# Altium integrated library Microchip DSC 16-Bit dsPIC30F.IntLib: 267 symbols (part 2 of 12)
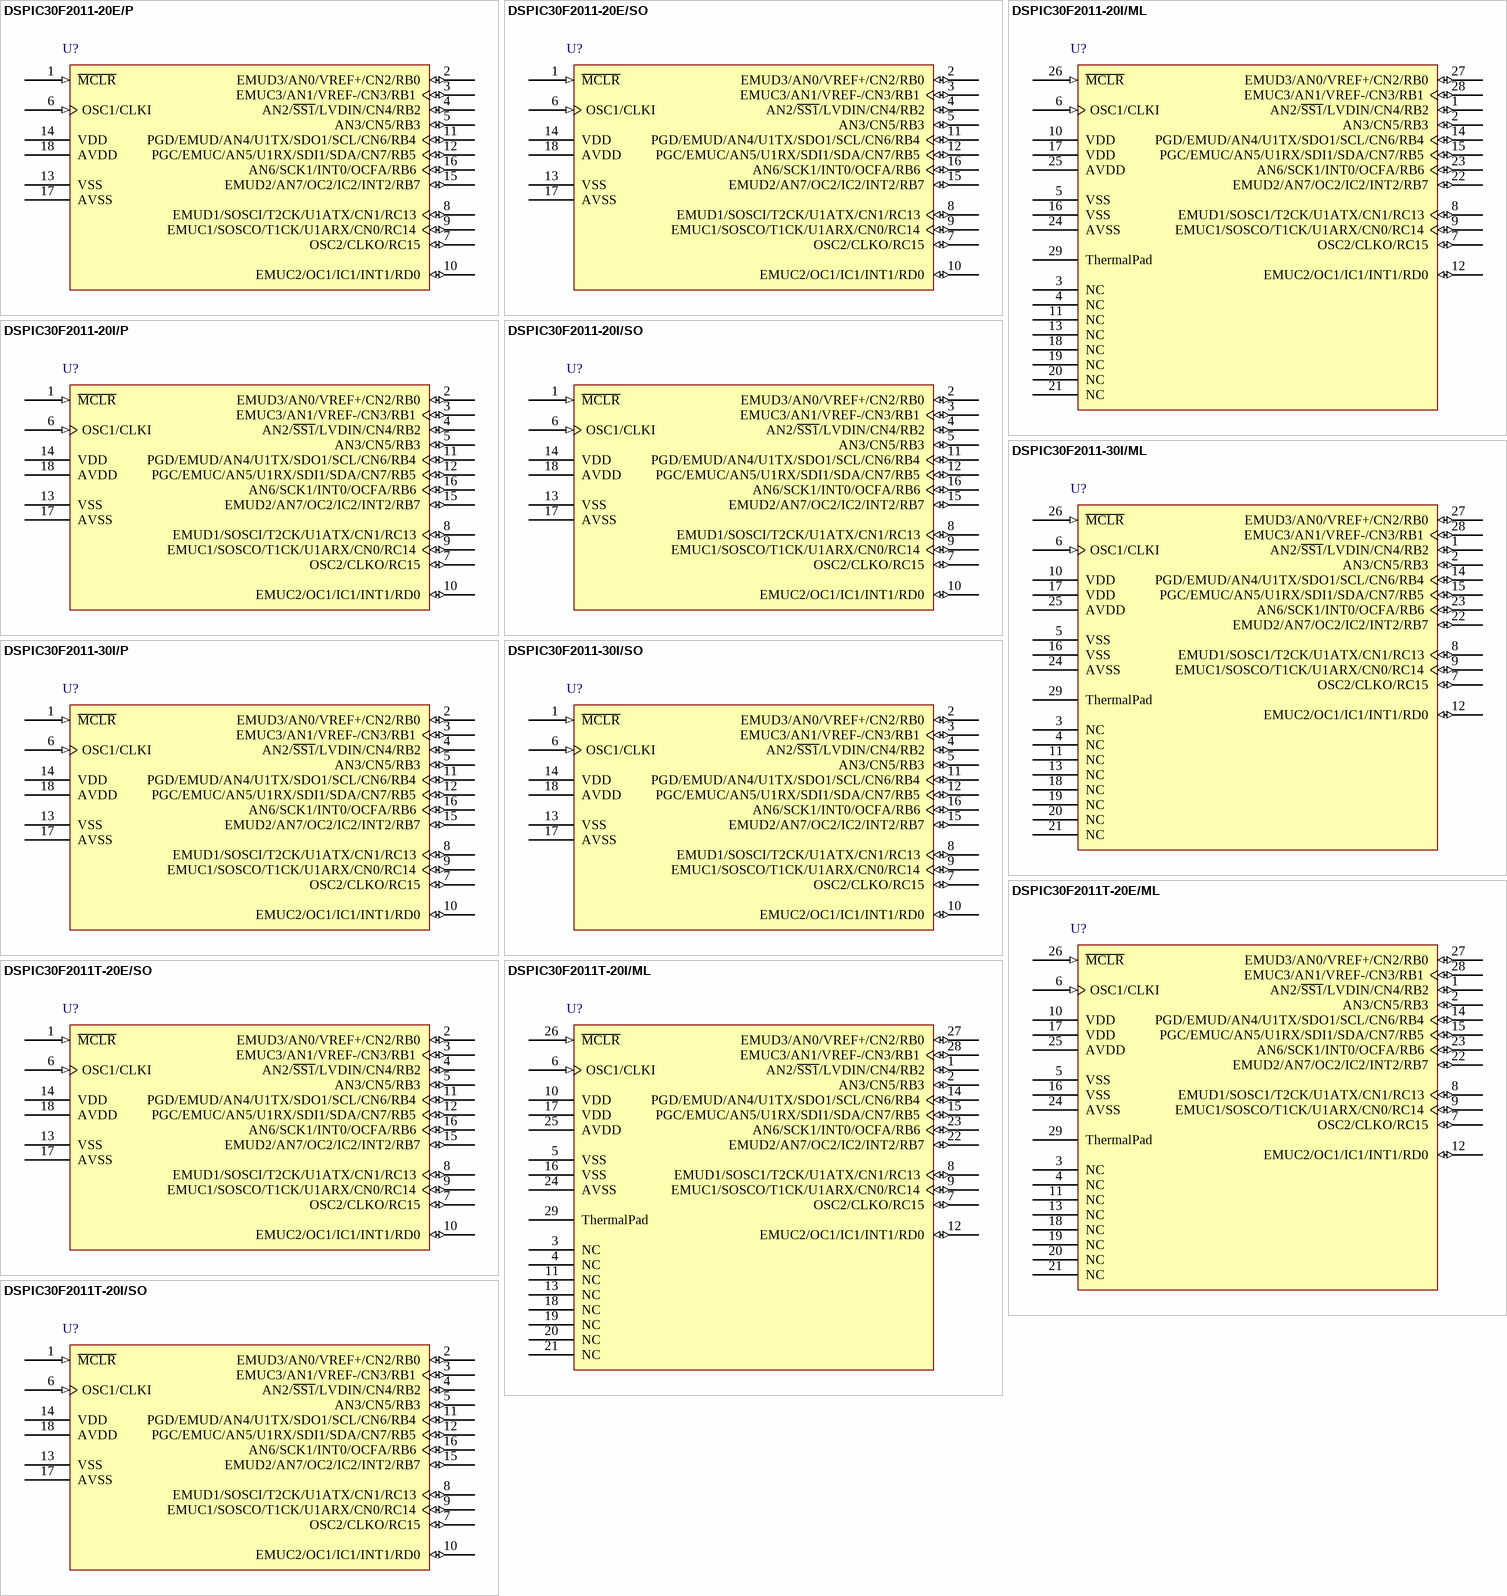
[diagram p44: symbols DSPIC30F2011-20E/P to DSPIC30F2011T-20I/SO]

## DSPIC30F2011-20E/SO
designator U?
High-Performance 16-bit Digital Signal Controller, 12 KB Flash, 1 KB SRAM, 18-Pin SOIC, Extended High Temperature; Published: 29-Jan-2009; DatasheetVersion: revF, May-2008; PackageVersion: revBB, Aug-2009; PackageReference: SOIC-SO18; Publisher: Altium Limited; PackageDescription: 18-Lead Plastic Small Outline (SO) - Wide 7.50mm Body [SOIC]; Supplier 1: Digi-Key; Supplier Part Number 1: DSPIC30F2011-20E/SO-ND; Code_JEDEC: MS-013; ComponentLink1Description: Datasheet; ComponentLink1URL: http://ww1.microchip.com/downloads/en/DeviceDoc/70139F.pdf; ComponentLink2Description: Packaging Specification; ComponentLink2URL: http://www.microchip.com/stellent/groups/techpub_sg/documents/packagingspec/en012702.pdf; ComponentLink3Description: Microchip.com Home; ComponentLink3URL: http://www.microchip.com/
footprint SOIC-SO18_N (SOIC, 18-Leads, Body 11.5x7.5mm, Pitch 1.27mm, IPC Medium Density)
footprint SOIC-SO18_L (SOIC, 18-Leads, Body 11.5x7.5mm, Pitch 1.27mm, IPC High Density)
footprint SOIC-SO18_M (SOIC, 18-Leads, Body 11.5x7.5mm, Pitch 1.27mm, IPC Low Density)
pins: 1 ~{MCLR} (in), 2 EMUD3/AN0/VREF+/CN2/RB0 (io), 3 EMUC3/AN1/VREF-/CN3/RB1 (io), 4 AN2/~{SS1}/LVDIN/CN4/RB2 (io), 5 AN3/CN5/RB3 (io), 6 OSC1/CLKI (in), 7 OSC2/CLKO/RC15 (io), 8 EMUD1/SOSCI/T2CK/U1ATX/CN1/RC13 (io), 9 EMUC1/SOSCO/T1CK/U1ARX/CN0/RC14 (io), 10 EMUC2/OC1/IC1/INT1/RD0 (io), 11 PGD/EMUD/AN4/U1TX/SDO1/SCL/CN6/RB4 (io), 12 PGC/EMUC/AN5/U1RX/SDI1/SDA/CN7/RB5 (io), 13 VSS (power), 14 VDD (power), 15 EMUD2/AN7/OC2/IC2/INT2/RB7 (io), 16 AN6/SCK1/INT0/OCFA/RB6 (io), 17 AVSS (power), 18 AVDD (power)

## DSPIC30F2011-20I/ML
designator U?
High-Performance 16-bit Digital Signal Controller, 12 KB Flash, 1 KB SRAM, 28-Pin QFN, Industrial Temperature; Published: 29-Jan-2009; DatasheetVersion: revF, May-2008; PackageVersion: revBB, Aug-2009; PackageReference: QFN-ML28; Publisher: Altium Limited; PackageDescription: 28-Lead Plastic Quad Flat, No Lead Package (ML) - 6x6 mm Body [QFN] with 0.55 mm Contact Length; Supplier 1: Digi-Key; Supplier Part Number 1: DSPIC30F201120IML-ND; Supplier 2: Farnell; Supplier Part Number 2: 9385851; Code_JEDEC: MO-220; Code_IPC: QFN65P600X600-28V; ComponentLink1Description: Datasheet; ComponentLink1URL: http://ww1.microchip.com/downloads/en/DeviceDoc/70139F.pdf; ComponentLink2Description: Packaging Specification; ComponentLink2URL: http://www.microchip.com/stellent/groups/techpub_sg/documents/packagingspec/en012702.pdf; ComponentLink3Description: Microchip.com Home; ComponentLink3URL: http://www.microchip.com/
footprint QFN-ML28_N (QFN, 28-Leads, Body 6x6 mm, Pitch 0.65mm, IPC Medium Density)
footprint QFN-ML28_L (QFN, 28-Leads, Body 6x6 mm, Pitch 0.65mm, IPC High Density)
footprint QFN-ML28_M (QFN, 28-Leads, Body 6x6 mm, Pitch 0.65mm, IPC Low Density)
pins: 1 AN2/~{SS1}/LVDIN/CN4/RB2 (io), 2 AN3/CN5/RB3 (io), 3 NC, 4 NC, 5 VSS (power), 6 OSC1/CLKI (in), 7 OSC2/CLKO/RC15 (io), 8 EMUD1/SOSC1/T2CK/U1ATX/CN1/RC13 (io), 9 EMUC1/SOSCO/T1CK/U1ARX/CN0/RC14 (io), 10 VDD (power), 11 NC, 12 EMUC2/OC1/IC1/INT1/RD0 (io), 13 NC, 14 PGD/EMUD/AN4/U1TX/SDO1/SCL/CN6/RB4 (io), 15 PGC/EMUC/AN5/U1RX/SDI1/SDA/CN7/RB5 (io), 16 VSS (power), 17 VDD (power), 18 NC, 19 NC, 20 NC, 21 NC, 22 EMUD2/AN7/OC2/IC2/INT2/RB7 (io), 23 AN6/SCK1/INT0/OCFA/RB6 (io), 24 AVSS (power), 25 AVDD (power), 26 ~{MCLR} (in), 27 EMUD3/AN0/VREF+/CN2/RB0 (io), 28 EMUC3/AN1/VREF-/CN3/RB1 (io), 29 ThermalPad

## DSPIC30F2011-20I/P
designator U?
High-Performance 16-bit Digital Signal Controller, 12 KB Flash, 1 KB SRAM, 18-Pin PDIP, Industrial Temperature; Published: 29-Jan-2009; DatasheetVersion: revF, May-2008; PackageVersion: revBB, Aug-2009; PackageReference: PDIP300-P18; Publisher: Altium Limited; PackageDescription: 18-Lead Plastic Dual In-Line (P) - 300 mil Body [PDIP]; Supplier 1: Digi-Key; Supplier Part Number 1: DSPIC30F2011-20IP-ND; Supplier 2: Farnell; Supplier Part Number 2: 9385860; Code_JEDEC: MS-001; ComponentLink1Description: Datasheet; ComponentLink1URL: http://ww1.microchip.com/downloads/en/DeviceDoc/70139F.pdf; ComponentLink2Description: Packaging Specification; ComponentLink2URL: http://www.microchip.com/stellent/groups/techpub_sg/documents/packagingspec/en012702.pdf; ComponentLink3Description: Microchip.com Home; ComponentLink3URL: http://www.microchip.com/
footprint PDIP300-P18 (DIP, 18-Leads, Row Spacing 7.62mm, Pitch 2.54mm, Body 22.9x6.6mm)
pins: 1 ~{MCLR} (in), 2 EMUD3/AN0/VREF+/CN2/RB0 (io), 3 EMUC3/AN1/VREF-/CN3/RB1 (io), 4 AN2/~{SS1}/LVDIN/CN4/RB2 (io), 5 AN3/CN5/RB3 (io), 6 OSC1/CLKI (in), 7 OSC2/CLKO/RC15 (io), 8 EMUD1/SOSCI/T2CK/U1ATX/CN1/RC13 (io), 9 EMUC1/SOSCO/T1CK/U1ARX/CN0/RC14 (io), 10 EMUC2/OC1/IC1/INT1/RD0 (io), 11 PGD/EMUD/AN4/U1TX/SDO1/SCL/CN6/RB4 (io), 12 PGC/EMUC/AN5/U1RX/SDI1/SDA/CN7/RB5 (io), 13 VSS (power), 14 VDD (power), 15 EMUD2/AN7/OC2/IC2/INT2/RB7 (io), 16 AN6/SCK1/INT0/OCFA/RB6 (io), 17 AVSS (power), 18 AVDD (power)

## DSPIC30F2011-20I/SO
designator U?
High-Performance 16-bit Digital Signal Controller, 12 KB Flash, 1 KB SRAM, 18-Pin SOIC, Industrial Temperature; Published: 29-Jan-2009; DatasheetVersion: revF, May-2008; PackageVersion: revBB, Aug-2009; PackageReference: SOIC-SO18; Publisher: Altium Limited; PackageDescription: 18-Lead Plastic Small Outline (SO) - Wide 7.50mm Body [SOIC]; Supplier 1: Digi-Key; Supplier Part Number 1: DSPIC30F201120ISO-ND; Supplier 2: Farnell; Supplier Part Number 2: 9385878; Code_JEDEC: MS-013; ComponentLink1Description: Datasheet; ComponentLink1URL: http://ww1.microchip.com/downloads/en/DeviceDoc/70139F.pdf; ComponentLink2Description: Packaging Specification; ComponentLink2URL: http://www.microchip.com/stellent/groups/techpub_sg/documents/packagingspec/en012702.pdf; ComponentLink3Description: Microchip.com Home; ComponentLink3URL: http://www.microchip.com/
footprint SOIC-SO18_N (SOIC, 18-Leads, Body 11.5x7.5mm, Pitch 1.27mm, IPC Medium Density)
footprint SOIC-SO18_L (SOIC, 18-Leads, Body 11.5x7.5mm, Pitch 1.27mm, IPC High Density)
footprint SOIC-SO18_M (SOIC, 18-Leads, Body 11.5x7.5mm, Pitch 1.27mm, IPC Low Density)
pins: 1 ~{MCLR} (in), 2 EMUD3/AN0/VREF+/CN2/RB0 (io), 3 EMUC3/AN1/VREF-/CN3/RB1 (io), 4 AN2/~{SS1}/LVDIN/CN4/RB2 (io), 5 AN3/CN5/RB3 (io), 6 OSC1/CLKI (in), 7 OSC2/CLKO/RC15 (io), 8 EMUD1/SOSCI/T2CK/U1ATX/CN1/RC13 (io), 9 EMUC1/SOSCO/T1CK/U1ARX/CN0/RC14 (io), 10 EMUC2/OC1/IC1/INT1/RD0 (io), 11 PGD/EMUD/AN4/U1TX/SDO1/SCL/CN6/RB4 (io), 12 PGC/EMUC/AN5/U1RX/SDI1/SDA/CN7/RB5 (io), 13 VSS (power), 14 VDD (power), 15 EMUD2/AN7/OC2/IC2/INT2/RB7 (io), 16 AN6/SCK1/INT0/OCFA/RB6 (io), 17 AVSS (power), 18 AVDD (power)

## DSPIC30F2011-30I/ML
designator U?
High-Performance 16-bit Digital Signal Controller, 12 KB Flash, 1 KB SRAM, 28-Pin QFN, Industrial Temperature; Published: 29-Jan-2009; DatasheetVersion: revF, May-2008; PackageVersion: revBB, Aug-2009; PackageReference: QFN-ML28; Publisher: Altium Limited; PackageDescription: 28-Lead Plastic Quad Flat, No Lead Package (ML) - 6x6 mm Body [QFN] with 0.55 mm Contact Length; Supplier 1: Digi-Key; Supplier Part Number 1: DSPIC30F201130IML-ND; Supplier 2: Farnell; Supplier Part Number 2: 1262751; Code_JEDEC: MO-220; Code_IPC: QFN65P600X600-28V; ComponentLink1Description: Datasheet; ComponentLink1URL: http://ww1.microchip.com/downloads/en/DeviceDoc/70139F.pdf; ComponentLink2Description: Packaging Specification; ComponentLink2URL: http://www.microchip.com/stellent/groups/techpub_sg/documents/packagingspec/en012702.pdf; ComponentLink3Description: Microchip.com Home; ComponentLink3URL: http://www.microchip.com/
footprint QFN-ML28_N (QFN, 28-Leads, Body 6x6 mm, Pitch 0.65mm, IPC Medium Density)
footprint QFN-ML28_L (QFN, 28-Leads, Body 6x6 mm, Pitch 0.65mm, IPC High Density)
footprint QFN-ML28_M (QFN, 28-Leads, Body 6x6 mm, Pitch 0.65mm, IPC Low Density)
pins: 1 AN2/~{SS1}/LVDIN/CN4/RB2 (io), 2 AN3/CN5/RB3 (io), 3 NC, 4 NC, 5 VSS (power), 6 OSC1/CLKI (in), 7 OSC2/CLKO/RC15 (io), 8 EMUD1/SOSC1/T2CK/U1ATX/CN1/RC13 (io), 9 EMUC1/SOSCO/T1CK/U1ARX/CN0/RC14 (io), 10 VDD (power), 11 NC, 12 EMUC2/OC1/IC1/INT1/RD0 (io), 13 NC, 14 PGD/EMUD/AN4/U1TX/SDO1/SCL/CN6/RB4 (io), 15 PGC/EMUC/AN5/U1RX/SDI1/SDA/CN7/RB5 (io), 16 VSS (power), 17 VDD (power), 18 NC, 19 NC, 20 NC, 21 NC, 22 EMUD2/AN7/OC2/IC2/INT2/RB7 (io), 23 AN6/SCK1/INT0/OCFA/RB6 (io), 24 AVSS (power), 25 AVDD (power), 26 ~{MCLR} (in), 27 EMUD3/AN0/VREF+/CN2/RB0 (io), 28 EMUC3/AN1/VREF-/CN3/RB1 (io), 29 ThermalPad

## DSPIC30F2011-30I/P
designator U?
High-Performance 16-bit Digital Signal Controller, 12 KB Flash, 1 KB SRAM, 18-Pin PDIP, Industrial Temperature; Published: 29-Jan-2009; DatasheetVersion: revF, May-2008; PackageVersion: revBB, Aug-2009; PackageReference: PDIP300-P18; Publisher: Altium Limited; PackageDescription: 18-Lead Plastic Dual In-Line (P) - 300 mil Body [PDIP]; Supplier 1: Digi-Key; Supplier Part Number 1: DSPIC30F2011-30IP-ND; Supplier 2: Farnell; Supplier Part Number 2: 1332022; Code_JEDEC: MS-001; ComponentLink1Description: Datasheet; ComponentLink1URL: http://ww1.microchip.com/downloads/en/DeviceDoc/70139F.pdf; ComponentLink2Description: Packaging Specification; ComponentLink2URL: http://www.microchip.com/stellent/groups/techpub_sg/documents/packagingspec/en012702.pdf; ComponentLink3Description: Microchip.com Home; ComponentLink3URL: http://www.microchip.com/
footprint PDIP300-P18 (DIP, 18-Leads, Row Spacing 7.62mm, Pitch 2.54mm, Body 22.9x6.6mm)
pins: 1 ~{MCLR} (in), 2 EMUD3/AN0/VREF+/CN2/RB0 (io), 3 EMUC3/AN1/VREF-/CN3/RB1 (io), 4 AN2/~{SS1}/LVDIN/CN4/RB2 (io), 5 AN3/CN5/RB3 (io), 6 OSC1/CLKI (in), 7 OSC2/CLKO/RC15 (io), 8 EMUD1/SOSCI/T2CK/U1ATX/CN1/RC13 (io), 9 EMUC1/SOSCO/T1CK/U1ARX/CN0/RC14 (io), 10 EMUC2/OC1/IC1/INT1/RD0 (io), 11 PGD/EMUD/AN4/U1TX/SDO1/SCL/CN6/RB4 (io), 12 PGC/EMUC/AN5/U1RX/SDI1/SDA/CN7/RB5 (io), 13 VSS (power), 14 VDD (power), 15 EMUD2/AN7/OC2/IC2/INT2/RB7 (io), 16 AN6/SCK1/INT0/OCFA/RB6 (io), 17 AVSS (power), 18 AVDD (power)

## DSPIC30F2011-30I/SO
designator U?
High-Performance 16-bit Digital Signal Controller, 12 KB Flash, 1 KB SRAM, 18-Pin SOIC, Industrial Temperature; Published: 29-Jan-2009; DatasheetVersion: revF, May-2008; PackageVersion: revBB, Aug-2009; PackageReference: SOIC-SO18; Publisher: Altium Limited; PackageDescription: 18-Lead Plastic Small Outline (SO) - Wide 7.50mm Body [SOIC]; Supplier 1: Digi-Key; Supplier Part Number 1: DSPIC30F201130ISO-ND; Supplier 2: Farnell; Supplier Part Number 2: 1332023; Code_JEDEC: MS-013; ComponentLink1Description: Datasheet; ComponentLink1URL: http://ww1.microchip.com/downloads/en/DeviceDoc/70139F.pdf; ComponentLink2Description: Packaging Specification; ComponentLink2URL: http://www.microchip.com/stellent/groups/techpub_sg/documents/packagingspec/en012702.pdf; ComponentLink3Description: Microchip.com Home; ComponentLink3URL: http://www.microchip.com/
footprint SOIC-SO18_N (SOIC, 18-Leads, Body 11.5x7.5mm, Pitch 1.27mm, IPC Medium Density)
footprint SOIC-SO18_L (SOIC, 18-Leads, Body 11.5x7.5mm, Pitch 1.27mm, IPC High Density)
footprint SOIC-SO18_M (SOIC, 18-Leads, Body 11.5x7.5mm, Pitch 1.27mm, IPC Low Density)
pins: 1 ~{MCLR} (in), 2 EMUD3/AN0/VREF+/CN2/RB0 (io), 3 EMUC3/AN1/VREF-/CN3/RB1 (io), 4 AN2/~{SS1}/LVDIN/CN4/RB2 (io), 5 AN3/CN5/RB3 (io), 6 OSC1/CLKI (in), 7 OSC2/CLKO/RC15 (io), 8 EMUD1/SOSCI/T2CK/U1ATX/CN1/RC13 (io), 9 EMUC1/SOSCO/T1CK/U1ARX/CN0/RC14 (io), 10 EMUC2/OC1/IC1/INT1/RD0 (io), 11 PGD/EMUD/AN4/U1TX/SDO1/SCL/CN6/RB4 (io), 12 PGC/EMUC/AN5/U1RX/SDI1/SDA/CN7/RB5 (io), 13 VSS (power), 14 VDD (power), 15 EMUD2/AN7/OC2/IC2/INT2/RB7 (io), 16 AN6/SCK1/INT0/OCFA/RB6 (io), 17 AVSS (power), 18 AVDD (power)

## DSPIC30F2011T-20E/ML
designator U?
High-Performance 16-bit Digital Signal Controller, 12 KB Flash, 1 KB SRAM, 28-Pin QFN, Extended High Temperature, Tape and Reel; Published: 29-Jan-2009; DatasheetVersion: revF, May-2008; PackageVersion: revBB, Aug-2009; PackageReference: QFN-ML28; Publisher: Altium Limited; PackageDescription: 28-Lead Plastic Quad Flat, No Lead Package (ML) - 6x6 mm Body [QFN] with 0.55 mm Contact Length; Supplier 1: Digi-Key; Supplier Part Number 1: DSPIC30F2011T-20E/ML-ND; Code_JEDEC: MO-220; Code_IPC: QFN65P600X600-28V; ComponentLink1Description: Datasheet; ComponentLink1URL: http://ww1.microchip.com/downloads/en/DeviceDoc/70139F.pdf; ComponentLink2Description: Packaging Specification; ComponentLink2URL: http://www.microchip.com/stellent/groups/techpub_sg/documents/packagingspec/en012702.pdf; ComponentLink3Description: Microchip.com Home; ComponentLink3URL: http://www.microchip.com/
footprint QFN-ML28_N (QFN, 28-Leads, Body 6x6 mm, Pitch 0.65mm, IPC Medium Density)
footprint QFN-ML28_L (QFN, 28-Leads, Body 6x6 mm, Pitch 0.65mm, IPC High Density)
footprint QFN-ML28_M (QFN, 28-Leads, Body 6x6 mm, Pitch 0.65mm, IPC Low Density)
pins: 1 AN2/~{SS1}/LVDIN/CN4/RB2 (io), 2 AN3/CN5/RB3 (io), 3 NC, 4 NC, 5 VSS (power), 6 OSC1/CLKI (in), 7 OSC2/CLKO/RC15 (io), 8 EMUD1/SOSC1/T2CK/U1ATX/CN1/RC13 (io), 9 EMUC1/SOSCO/T1CK/U1ARX/CN0/RC14 (io), 10 VDD (power), 11 NC, 12 EMUC2/OC1/IC1/INT1/RD0 (io), 13 NC, 14 PGD/EMUD/AN4/U1TX/SDO1/SCL/CN6/RB4 (io), 15 PGC/EMUC/AN5/U1RX/SDI1/SDA/CN7/RB5 (io), 16 VSS (power), 17 VDD (power), 18 NC, 19 NC, 20 NC, 21 NC, 22 EMUD2/AN7/OC2/IC2/INT2/RB7 (io), 23 AN6/SCK1/INT0/OCFA/RB6 (io), 24 AVSS (power), 25 AVDD (power), 26 ~{MCLR} (in), 27 EMUD3/AN0/VREF+/CN2/RB0 (io), 28 EMUC3/AN1/VREF-/CN3/RB1 (io), 29 ThermalPad

## DSPIC30F2011T-20E/SO
designator U?
High-Performance 16-bit Digital Signal Controller, 12 KB Flash, 1 KB SRAM, 18-Pin SOIC, Extended High Temperature, Tape and Reel; Published: 29-Jan-2009; DatasheetVersion: revF, May-2008; PackageVersion: revBB, Aug-2009; PackageReference: SOIC-SO18; Publisher: Altium Limited; PackageDescription: 18-Lead Plastic Small Outline (SO) - Wide 7.50mm Body [SOIC]; Supplier 1: Digi-Key; Supplier Part Number 1: DSPIC30F2011T-20E/SO-ND; Code_JEDEC: MS-013; ComponentLink1Description: Datasheet; ComponentLink1URL: http://ww1.microchip.com/downloads/en/DeviceDoc/70139F.pdf; ComponentLink2Description: Packaging Specification; ComponentLink2URL: http://www.microchip.com/stellent/groups/techpub_sg/documents/packagingspec/en012702.pdf; ComponentLink3Description: Microchip.com Home; ComponentLink3URL: http://www.microchip.com/
footprint SOIC-SO18_N (SOIC, 18-Leads, Body 11.5x7.5mm, Pitch 1.27mm, IPC Medium Density)
footprint SOIC-SO18_L (SOIC, 18-Leads, Body 11.5x7.5mm, Pitch 1.27mm, IPC High Density)
footprint SOIC-SO18_M (SOIC, 18-Leads, Body 11.5x7.5mm, Pitch 1.27mm, IPC Low Density)
pins: 1 ~{MCLR} (in), 2 EMUD3/AN0/VREF+/CN2/RB0 (io), 3 EMUC3/AN1/VREF-/CN3/RB1 (io), 4 AN2/~{SS1}/LVDIN/CN4/RB2 (io), 5 AN3/CN5/RB3 (io), 6 OSC1/CLKI (in), 7 OSC2/CLKO/RC15 (io), 8 EMUD1/SOSCI/T2CK/U1ATX/CN1/RC13 (io), 9 EMUC1/SOSCO/T1CK/U1ARX/CN0/RC14 (io), 10 EMUC2/OC1/IC1/INT1/RD0 (io), 11 PGD/EMUD/AN4/U1TX/SDO1/SCL/CN6/RB4 (io), 12 PGC/EMUC/AN5/U1RX/SDI1/SDA/CN7/RB5 (io), 13 VSS (power), 14 VDD (power), 15 EMUD2/AN7/OC2/IC2/INT2/RB7 (io), 16 AN6/SCK1/INT0/OCFA/RB6 (io), 17 AVSS (power), 18 AVDD (power)

## DSPIC30F2011T-20I/ML
designator U?
High-Performance 16-bit Digital Signal Controller, 12 KB Flash, 1 KB SRAM, 28-Pin QFN, Industrial Temperature, Tape and Reel; Published: 29-Jan-2009; DatasheetVersion: revF, May-2008; PackageVersion: revBB, Aug-2009; PackageReference: QFN-ML28; Publisher: Altium Limited; PackageDescription: 28-Lead Plastic Quad Flat, No Lead Package (ML) - 6x6 mm Body [QFN] with 0.55 mm Contact Length; Supplier 1: Digi-Key; Supplier Part Number 1: DSPIC30F2011T-20I/ML-ND; Code_JEDEC: MO-220; Code_IPC: QFN65P600X600-28V; ComponentLink1Description: Datasheet; ComponentLink1URL: http://ww1.microchip.com/downloads/en/DeviceDoc/70139F.pdf; ComponentLink2Description: Packaging Specification; ComponentLink2URL: http://www.microchip.com/stellent/groups/techpub_sg/documents/packagingspec/en012702.pdf; ComponentLink3Description: Microchip.com Home; ComponentLink3URL: http://www.microchip.com/
footprint QFN-ML28_N (QFN, 28-Leads, Body 6x6 mm, Pitch 0.65mm, IPC Medium Density)
footprint QFN-ML28_L (QFN, 28-Leads, Body 6x6 mm, Pitch 0.65mm, IPC High Density)
footprint QFN-ML28_M (QFN, 28-Leads, Body 6x6 mm, Pitch 0.65mm, IPC Low Density)
pins: 1 AN2/~{SS1}/LVDIN/CN4/RB2 (io), 2 AN3/CN5/RB3 (io), 3 NC, 4 NC, 5 VSS (power), 6 OSC1/CLKI (in), 7 OSC2/CLKO/RC15 (io), 8 EMUD1/SOSC1/T2CK/U1ATX/CN1/RC13 (io), 9 EMUC1/SOSCO/T1CK/U1ARX/CN0/RC14 (io), 10 VDD (power), 11 NC, 12 EMUC2/OC1/IC1/INT1/RD0 (io), 13 NC, 14 PGD/EMUD/AN4/U1TX/SDO1/SCL/CN6/RB4 (io), 15 PGC/EMUC/AN5/U1RX/SDI1/SDA/CN7/RB5 (io), 16 VSS (power), 17 VDD (power), 18 NC, 19 NC, 20 NC, 21 NC, 22 EMUD2/AN7/OC2/IC2/INT2/RB7 (io), 23 AN6/SCK1/INT0/OCFA/RB6 (io), 24 AVSS (power), 25 AVDD (power), 26 ~{MCLR} (in), 27 EMUD3/AN0/VREF+/CN2/RB0 (io), 28 EMUC3/AN1/VREF-/CN3/RB1 (io), 29 ThermalPad

## DSPIC30F2011T-20I/SO
designator U?
High-Performance 16-bit Digital Signal Controller, 12 KB Flash, 1 KB SRAM, 18-Pin SOIC, Industrial Temperature, Tape and Reel; Published: 29-Jan-2009; DatasheetVersion: revF, May-2008; PackageVersion: revBB, Aug-2009; PackageReference: SOIC-SO18; Publisher: Altium Limited; PackageDescription: 18-Lead Plastic Small Outline (SO) - Wide 7.50mm Body [SOIC]; Supplier 1: Digi-Key; Supplier Part Number 1: DSPIC30F2011T-20I/SO-ND; Code_JEDEC: MS-013; ComponentLink1Description: Datasheet; ComponentLink1URL: http://ww1.microchip.com/downloads/en/DeviceDoc/70139F.pdf; ComponentLink2Description: Packaging Specification; ComponentLink2URL: http://www.microchip.com/stellent/groups/techpub_sg/documents/packagingspec/en012702.pdf; ComponentLink3Description: Microchip.com Home; ComponentLink3URL: http://www.microchip.com/
footprint SOIC-SO18_N (SOIC, 18-Leads, Body 11.5x7.5mm, Pitch 1.27mm, IPC Medium Density)
footprint SOIC-SO18_L (SOIC, 18-Leads, Body 11.5x7.5mm, Pitch 1.27mm, IPC High Density)
footprint SOIC-SO18_M (SOIC, 18-Leads, Body 11.5x7.5mm, Pitch 1.27mm, IPC Low Density)
pins: 1 ~{MCLR} (in), 2 EMUD3/AN0/VREF+/CN2/RB0 (io), 3 EMUC3/AN1/VREF-/CN3/RB1 (io), 4 AN2/~{SS1}/LVDIN/CN4/RB2 (io), 5 AN3/CN5/RB3 (io), 6 OSC1/CLKI (in), 7 OSC2/CLKO/RC15 (io), 8 EMUD1/SOSCI/T2CK/U1ATX/CN1/RC13 (io), 9 EMUC1/SOSCO/T1CK/U1ARX/CN0/RC14 (io), 10 EMUC2/OC1/IC1/INT1/RD0 (io), 11 PGD/EMUD/AN4/U1TX/SDO1/SCL/CN6/RB4 (io), 12 PGC/EMUC/AN5/U1RX/SDI1/SDA/CN7/RB5 (io), 13 VSS (power), 14 VDD (power), 15 EMUD2/AN7/OC2/IC2/INT2/RB7 (io), 16 AN6/SCK1/INT0/OCFA/RB6 (io), 17 AVSS (power), 18 AVDD (power)

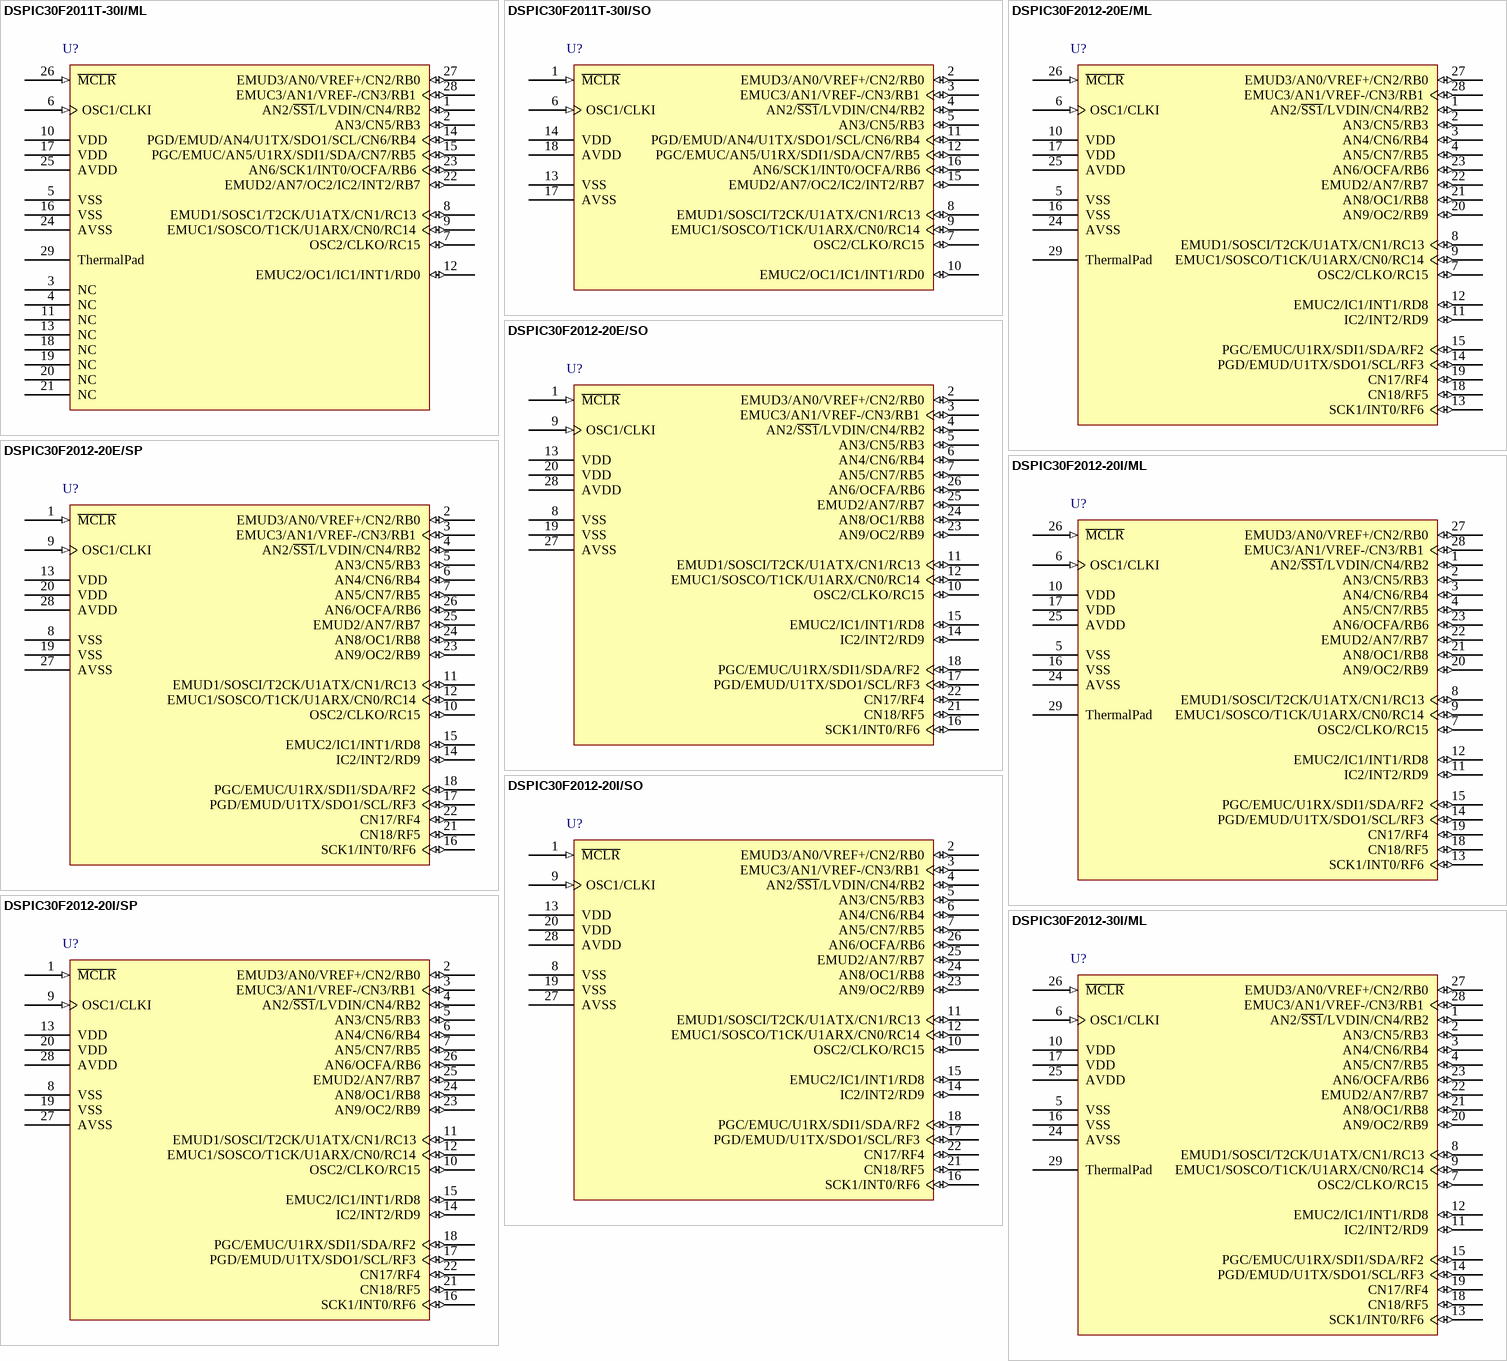
[diagram p4: symbols DSPIC30F2011T-30I/ML to DSPIC30F2012-30I/ML]

## DSPIC30F2011T-30I/ML
designator U?
High-Performance 16-bit Digital Signal Controller, 12 KB Flash, 1 KB SRAM, 28-Pin QFN, Industrial Temperature, Tape and Reel; Published: 29-Jan-2009; DatasheetVersion: revF, May-2008; PackageVersion: revBB, Aug-2009; PackageReference: QFN-ML28; Publisher: Altium Limited; PackageDescription: 28-Lead Plastic Quad Flat, No Lead Package (ML) - 6x6 mm Body [QFN] with 0.55 mm Contact Length; Supplier 1: Digi-Key; Supplier Part Number 1: DSPIC30F2011T-30I/ML-ND; Code_JEDEC: MO-220; Code_IPC: QFN65P600X600-28V; ComponentLink1Description: Datasheet; ComponentLink1URL: http://ww1.microchip.com/downloads/en/DeviceDoc/70139F.pdf; ComponentLink2Description: Packaging Specification; ComponentLink2URL: http://www.microchip.com/stellent/groups/techpub_sg/documents/packagingspec/en012702.pdf; ComponentLink3Description: Microchip.com Home; ComponentLink3URL: http://www.microchip.com/
footprint QFN-ML28_N (QFN, 28-Leads, Body 6x6 mm, Pitch 0.65mm, IPC Medium Density)
footprint QFN-ML28_L (QFN, 28-Leads, Body 6x6 mm, Pitch 0.65mm, IPC High Density)
footprint QFN-ML28_M (QFN, 28-Leads, Body 6x6 mm, Pitch 0.65mm, IPC Low Density)
pins: 1 AN2/~{SS1}/LVDIN/CN4/RB2 (io), 2 AN3/CN5/RB3 (io), 3 NC, 4 NC, 5 VSS (power), 6 OSC1/CLKI (in), 7 OSC2/CLKO/RC15 (io), 8 EMUD1/SOSC1/T2CK/U1ATX/CN1/RC13 (io), 9 EMUC1/SOSCO/T1CK/U1ARX/CN0/RC14 (io), 10 VDD (power), 11 NC, 12 EMUC2/OC1/IC1/INT1/RD0 (io), 13 NC, 14 PGD/EMUD/AN4/U1TX/SDO1/SCL/CN6/RB4 (io), 15 PGC/EMUC/AN5/U1RX/SDI1/SDA/CN7/RB5 (io), 16 VSS (power), 17 VDD (power), 18 NC, 19 NC, 20 NC, 21 NC, 22 EMUD2/AN7/OC2/IC2/INT2/RB7 (io), 23 AN6/SCK1/INT0/OCFA/RB6 (io), 24 AVSS (power), 25 AVDD (power), 26 ~{MCLR} (in), 27 EMUD3/AN0/VREF+/CN2/RB0 (io), 28 EMUC3/AN1/VREF-/CN3/RB1 (io), 29 ThermalPad

## DSPIC30F2011T-30I/SO
designator U?
High-Performance 16-bit Digital Signal Controller, 12 KB Flash, 1 KB SRAM, 18-Pin SOIC, Industrial Temperature, Tape and Reel; Published: 29-Jan-2009; DatasheetVersion: revF, May-2008; PackageVersion: revBB, Aug-2009; PackageReference: SOIC-SO18; Publisher: Altium Limited; PackageDescription: 18-Lead Plastic Small Outline (SO) - Wide 7.50mm Body [SOIC]; Supplier 1: Digi-Key; Supplier Part Number 1: DSPIC30F2011T-30I/SO-ND; Code_JEDEC: MS-013; ComponentLink1Description: Datasheet; ComponentLink1URL: http://ww1.microchip.com/downloads/en/DeviceDoc/70139F.pdf; ComponentLink2Description: Packaging Specification; ComponentLink2URL: http://www.microchip.com/stellent/groups/techpub_sg/documents/packagingspec/en012702.pdf; ComponentLink3Description: Microchip.com Home; ComponentLink3URL: http://www.microchip.com/
footprint SOIC-SO18_N (SOIC, 18-Leads, Body 11.5x7.5mm, Pitch 1.27mm, IPC Medium Density)
footprint SOIC-SO18_L (SOIC, 18-Leads, Body 11.5x7.5mm, Pitch 1.27mm, IPC High Density)
footprint SOIC-SO18_M (SOIC, 18-Leads, Body 11.5x7.5mm, Pitch 1.27mm, IPC Low Density)
pins: 1 ~{MCLR} (in), 2 EMUD3/AN0/VREF+/CN2/RB0 (io), 3 EMUC3/AN1/VREF-/CN3/RB1 (io), 4 AN2/~{SS1}/LVDIN/CN4/RB2 (io), 5 AN3/CN5/RB3 (io), 6 OSC1/CLKI (in), 7 OSC2/CLKO/RC15 (io), 8 EMUD1/SOSCI/T2CK/U1ATX/CN1/RC13 (io), 9 EMUC1/SOSCO/T1CK/U1ARX/CN0/RC14 (io), 10 EMUC2/OC1/IC1/INT1/RD0 (io), 11 PGD/EMUD/AN4/U1TX/SDO1/SCL/CN6/RB4 (io), 12 PGC/EMUC/AN5/U1RX/SDI1/SDA/CN7/RB5 (io), 13 VSS (power), 14 VDD (power), 15 EMUD2/AN7/OC2/IC2/INT2/RB7 (io), 16 AN6/SCK1/INT0/OCFA/RB6 (io), 17 AVSS (power), 18 AVDD (power)

## DSPIC30F2012-20E/ML
designator U?
High-Performance 16-bit Digital Signal Controller, 12 KB Flash, 1 KB SRAM, 28-Pin QFN, Extended High Temperature; Published: 29-Jan-2009; DatasheetVersion: revF, May-2008; PackageVersion: revBB, Aug-2009; PackageReference: QFN-ML28; Publisher: Altium Limited; PackageDescription: 28-Lead Plastic Quad Flat, No Lead Package (ML) - 6x6 mm Body [QFN] with 0.55 mm Contact Length; Supplier 1: Digi-Key; Supplier Part Number 1: DSPIC30F2012-20E/ML-ND; Code_JEDEC: MO-220; Code_IPC: QFN65P600X600-28V; ComponentLink1Description: Datasheet; ComponentLink1URL: http://ww1.microchip.com/downloads/en/DeviceDoc/70139F.pdf; ComponentLink2Description: Packaging Specification; ComponentLink2URL: http://www.microchip.com/stellent/groups/techpub_sg/documents/packagingspec/en012702.pdf; ComponentLink3Description: Microchip.com Home; ComponentLink3URL: http://www.microchip.com/
footprint QFN-ML28_N (QFN, 28-Leads, Body 6x6 mm, Pitch 0.65mm, IPC Medium Density)
footprint QFN-ML28_L (QFN, 28-Leads, Body 6x6 mm, Pitch 0.65mm, IPC High Density)
footprint QFN-ML28_M (QFN, 28-Leads, Body 6x6 mm, Pitch 0.65mm, IPC Low Density)
pins: 1 AN2/~{SS1}/LVDIN/CN4/RB2 (io), 2 AN3/CN5/RB3 (io), 3 AN4/CN6/RB4 (io), 4 AN5/CN7/RB5 (io), 5 VSS (power), 6 OSC1/CLKI (in), 7 OSC2/CLKO/RC15 (io), 8 EMUD1/SOSCI/T2CK/U1ATX/CN1/RC13 (io), 9 EMUC1/SOSCO/T1CK/U1ARX/CN0/RC14 (io), 10 VDD (power), 11 IC2/INT2/RD9 (io), 12 EMUC2/IC1/INT1/RD8 (io), 13 SCK1/INT0/RF6 (io), 14 PGD/EMUD/U1TX/SDO1/SCL/RF3 (io), 15 PGC/EMUC/U1RX/SDI1/SDA/RF2 (io), 16 VSS (power), 17 VDD (power), 18 CN18/RF5 (io), 19 CN17/RF4 (io), 20 AN9/OC2/RB9 (io), 21 AN8/OC1/RB8 (io), 22 EMUD2/AN7/RB7 (io), 23 AN6/OCFA/RB6 (io), 24 AVSS (power), 25 AVDD (power), 26 ~{MCLR} (in), 27 EMUD3/AN0/VREF+/CN2/RB0 (io), 28 EMUC3/AN1/VREF-/CN3/RB1 (io), 29 ThermalPad

## DSPIC30F2012-20E/SO
designator U?
High-Performance 16-bit Digital Signal Controller, 12 KB Flash, 1 KB SRAM, 28-Pin SOIC, Extended High Temperature; Published: 29-Jan-2009; DatasheetVersion: revF, May-2008; PackageVersion: revBB, Aug-2009; PackageReference: SOIC-SO28; Publisher: Altium Limited; PackageDescription: 28-Lead Plastic Small Outline (SO) - Wide 7.50mm Body [SOIC]; Supplier 1: Digi-Key; Supplier Part Number 1: DSPIC30F2012-20E/SO-ND; Code_JEDEC: MS-013; ComponentLink1Description: Datasheet; ComponentLink1URL: http://ww1.microchip.com/downloads/en/DeviceDoc/70139F.pdf; ComponentLink2Description: Packaging Specification; ComponentLink2URL: http://www.microchip.com/stellent/groups/techpub_sg/documents/packagingspec/en012702.pdf; ComponentLink3Description: Microchip.com Home; ComponentLink3URL: http://www.microchip.com/
footprint SOIC-SO28_N (SOIC, 28-Leads, Body 17.9x7.5mm, Pitch 1.27mm, IPC Medium Density)
footprint SOIC-SO28_L (SOIC, 28-Leads, Body 17.9x7.5mm, Pitch 1.27mm, IPC High Density)
footprint SOIC-SO28_M (SOIC, 28-Leads, Body 17.9x7.5mm, Pitch 1.27mm, IPC Low Density)
pins: 1 ~{MCLR} (in), 2 EMUD3/AN0/VREF+/CN2/RB0 (io), 3 EMUC3/AN1/VREF-/CN3/RB1 (io), 4 AN2/~{SS1}/LVDIN/CN4/RB2 (io), 5 AN3/CN5/RB3 (io), 6 AN4/CN6/RB4 (io), 7 AN5/CN7/RB5 (io), 8 VSS (power), 9 OSC1/CLKI (in), 10 OSC2/CLKO/RC15 (io), 11 EMUD1/SOSCI/T2CK/U1ATX/CN1/RC13 (io), 12 EMUC1/SOSCO/T1CK/U1ARX/CN0/RC14 (io), 13 VDD (power), 14 IC2/INT2/RD9 (io), 15 EMUC2/IC1/INT1/RD8 (io), 16 SCK1/INT0/RF6 (io), 17 PGD/EMUD/U1TX/SDO1/SCL/RF3 (io), 18 PGC/EMUC/U1RX/SDI1/SDA/RF2 (io), 19 VSS (power), 20 VDD (power), 21 CN18/RF5 (io), 22 CN17/RF4 (io), 23 AN9/OC2/RB9 (io), 24 AN8/OC1/RB8 (io), 25 EMUD2/AN7/RB7 (io), 26 AN6/OCFA/RB6 (io), 27 AVSS (power), 28 AVDD (power)

## DSPIC30F2012-20E/SP
designator U?
High-Performance 16-bit Digital Signal Controller, 12 KB Flash, 1 KB SRAM, 28-Pin SPDIP, Extended High Temperature; Published: 29-Jan-2009; DatasheetVersion: revF, May-2008; PackageVersion: revBB, Aug-2009; PackageReference: SPDIP300-SP28; Publisher: Altium Limited; PackageDescription: 28-Lead Skinny Plastic Dual In-Line (SP) - 300 mil Body [SPDIP]; Supplier 1: Digi-Key; Supplier Part Number 1: DSPIC30F2012-20E/SP-ND; ComponentLink1Description: Datasheet; ComponentLink1URL: http://ww1.microchip.com/downloads/en/DeviceDoc/70139F.pdf; ComponentLink2Description: Packaging Specification; ComponentLink2URL: http://www.microchip.com/stellent/groups/techpub_sg/documents/packagingspec/en012702.pdf; ComponentLink3Description: Microchip.com Home; ComponentLink3URL: http://www.microchip.com/
footprint SPDIP300-SP28 (DIP, 28-Leads, Row Spacing 7.62mm, Pitch 2.54mm, Body 34.9x6.8mm)
pins: 1 ~{MCLR} (in), 2 EMUD3/AN0/VREF+/CN2/RB0 (io), 3 EMUC3/AN1/VREF-/CN3/RB1 (io), 4 AN2/~{SS1}/LVDIN/CN4/RB2 (io), 5 AN3/CN5/RB3 (io), 6 AN4/CN6/RB4 (io), 7 AN5/CN7/RB5 (io), 8 VSS (power), 9 OSC1/CLKI (in), 10 OSC2/CLKO/RC15 (io), 11 EMUD1/SOSCI/T2CK/U1ATX/CN1/RC13 (io), 12 EMUC1/SOSCO/T1CK/U1ARX/CN0/RC14 (io), 13 VDD (power), 14 IC2/INT2/RD9 (io), 15 EMUC2/IC1/INT1/RD8 (io), 16 SCK1/INT0/RF6 (io), 17 PGD/EMUD/U1TX/SDO1/SCL/RF3 (io), 18 PGC/EMUC/U1RX/SDI1/SDA/RF2 (io), 19 VSS (power), 20 VDD (power), 21 CN18/RF5 (io), 22 CN17/RF4 (io), 23 AN9/OC2/RB9 (io), 24 AN8/OC1/RB8 (io), 25 EMUD2/AN7/RB7 (io), 26 AN6/OCFA/RB6 (io), 27 AVSS (power), 28 AVDD (power)

## DSPIC30F2012-20I/ML
designator U?
High-Performance 16-bit Digital Signal Controller, 12 KB Flash, 1 KB SRAM, 28-Pin QFN, Industrial Temperature; Published: 29-Jan-2009; DatasheetVersion: revF, May-2008; PackageVersion: revBB, Aug-2009; PackageReference: QFN-ML28; Publisher: Altium Limited; PackageDescription: 28-Lead Plastic Quad Flat, No Lead Package (ML) - 6x6 mm Body [QFN] with 0.55 mm Contact Length; Supplier 1: Digi-Key; Supplier Part Number 1: DSPIC30F201220IML-ND; Supplier 2: Farnell; Supplier Part Number 2: 9385886; Code_JEDEC: MO-220; Code_IPC: QFN65P600X600-28V; ComponentLink1Description: Datasheet; ComponentLink1URL: http://ww1.microchip.com/downloads/en/DeviceDoc/70139F.pdf; ComponentLink2Description: Packaging Specification; ComponentLink2URL: http://www.microchip.com/stellent/groups/techpub_sg/documents/packagingspec/en012702.pdf; ComponentLink3Description: Microchip.com Home; ComponentLink3URL: http://www.microchip.com/
footprint QFN-ML28_N (QFN, 28-Leads, Body 6x6 mm, Pitch 0.65mm, IPC Medium Density)
footprint QFN-ML28_L (QFN, 28-Leads, Body 6x6 mm, Pitch 0.65mm, IPC High Density)
footprint QFN-ML28_M (QFN, 28-Leads, Body 6x6 mm, Pitch 0.65mm, IPC Low Density)
pins: 1 AN2/~{SS1}/LVDIN/CN4/RB2 (io), 2 AN3/CN5/RB3 (io), 3 AN4/CN6/RB4 (io), 4 AN5/CN7/RB5 (io), 5 VSS (power), 6 OSC1/CLKI (in), 7 OSC2/CLKO/RC15 (io), 8 EMUD1/SOSCI/T2CK/U1ATX/CN1/RC13 (io), 9 EMUC1/SOSCO/T1CK/U1ARX/CN0/RC14 (io), 10 VDD (power), 11 IC2/INT2/RD9 (io), 12 EMUC2/IC1/INT1/RD8 (io), 13 SCK1/INT0/RF6 (io), 14 PGD/EMUD/U1TX/SDO1/SCL/RF3 (io), 15 PGC/EMUC/U1RX/SDI1/SDA/RF2 (io), 16 VSS (power), 17 VDD (power), 18 CN18/RF5 (io), 19 CN17/RF4 (io), 20 AN9/OC2/RB9 (io), 21 AN8/OC1/RB8 (io), 22 EMUD2/AN7/RB7 (io), 23 AN6/OCFA/RB6 (io), 24 AVSS (power), 25 AVDD (power), 26 ~{MCLR} (in), 27 EMUD3/AN0/VREF+/CN2/RB0 (io), 28 EMUC3/AN1/VREF-/CN3/RB1 (io), 29 ThermalPad

## DSPIC30F2012-20I/SO
designator U?
High-Performance 16-bit Digital Signal Controller, 12 KB Flash, 1 KB SRAM, 28-Pin SOIC, Industrial Temperature; Published: 29-Jan-2009; DatasheetVersion: revF, May-2008; PackageVersion: revBB, Aug-2009; PackageReference: SOIC-SO28; Publisher: Altium Limited; PackageDescription: 28-Lead Plastic Small Outline (SO) - Wide 7.50mm Body [SOIC]; Supplier 1: Digi-Key; Supplier Part Number 1: DSPIC30F201220ISO-ND; Supplier 2: Farnell; Supplier Part Number 2: 9385908; Code_JEDEC: MS-013; ComponentLink1Description: Datasheet; ComponentLink1URL: http://ww1.microchip.com/downloads/en/DeviceDoc/70139F.pdf; ComponentLink2Description: Packaging Specification; ComponentLink2URL: http://www.microchip.com/stellent/groups/techpub_sg/documents/packagingspec/en012702.pdf; ComponentLink3Description: Microchip.com Home; ComponentLink3URL: http://www.microchip.com/
footprint SOIC-SO28_N (SOIC, 28-Leads, Body 17.9x7.5mm, Pitch 1.27mm, IPC Medium Density)
footprint SOIC-SO28_L (SOIC, 28-Leads, Body 17.9x7.5mm, Pitch 1.27mm, IPC High Density)
footprint SOIC-SO28_M (SOIC, 28-Leads, Body 17.9x7.5mm, Pitch 1.27mm, IPC Low Density)
pins: 1 ~{MCLR} (in), 2 EMUD3/AN0/VREF+/CN2/RB0 (io), 3 EMUC3/AN1/VREF-/CN3/RB1 (io), 4 AN2/~{SS1}/LVDIN/CN4/RB2 (io), 5 AN3/CN5/RB3 (io), 6 AN4/CN6/RB4 (io), 7 AN5/CN7/RB5 (io), 8 VSS (power), 9 OSC1/CLKI (in), 10 OSC2/CLKO/RC15 (io), 11 EMUD1/SOSCI/T2CK/U1ATX/CN1/RC13 (io), 12 EMUC1/SOSCO/T1CK/U1ARX/CN0/RC14 (io), 13 VDD (power), 14 IC2/INT2/RD9 (io), 15 EMUC2/IC1/INT1/RD8 (io), 16 SCK1/INT0/RF6 (io), 17 PGD/EMUD/U1TX/SDO1/SCL/RF3 (io), 18 PGC/EMUC/U1RX/SDI1/SDA/RF2 (io), 19 VSS (power), 20 VDD (power), 21 CN18/RF5 (io), 22 CN17/RF4 (io), 23 AN9/OC2/RB9 (io), 24 AN8/OC1/RB8 (io), 25 EMUD2/AN7/RB7 (io), 26 AN6/OCFA/RB6 (io), 27 AVSS (power), 28 AVDD (power)

## DSPIC30F2012-20I/SP
designator U?
High-Performance 16-bit Digital Signal Controller, 12 KB Flash, 1 KB SRAM, 28-Pin SPDIP, Industrial Temperature; Published: 29-Jan-2009; DatasheetVersion: revF, May-2008; PackageVersion: revBB, Aug-2009; PackageReference: SPDIP300-SP28; Publisher: Altium Limited; PackageDescription: 28-Lead Skinny Plastic Dual In-Line (SP) - 300 mil Body [SPDIP]; Supplier 1: Digi-Key; Supplier Part Number 1: DSPIC30F201220ISP-ND; Supplier 2: Farnell; Supplier Part Number 2: 9385894; ComponentLink1Description: Datasheet; ComponentLink1URL: http://ww1.microchip.com/downloads/en/DeviceDoc/70139F.pdf; ComponentLink2Description: Packaging Specification; ComponentLink2URL: http://www.microchip.com/stellent/groups/techpub_sg/documents/packagingspec/en012702.pdf; ComponentLink3Description: Microchip.com Home; ComponentLink3URL: http://www.microchip.com/
footprint SPDIP300-SP28 (DIP, 28-Leads, Row Spacing 7.62mm, Pitch 2.54mm, Body 34.9x6.8mm)
pins: 1 ~{MCLR} (in), 2 EMUD3/AN0/VREF+/CN2/RB0 (io), 3 EMUC3/AN1/VREF-/CN3/RB1 (io), 4 AN2/~{SS1}/LVDIN/CN4/RB2 (io), 5 AN3/CN5/RB3 (io), 6 AN4/CN6/RB4 (io), 7 AN5/CN7/RB5 (io), 8 VSS (power), 9 OSC1/CLKI (in), 10 OSC2/CLKO/RC15 (io), 11 EMUD1/SOSCI/T2CK/U1ATX/CN1/RC13 (io), 12 EMUC1/SOSCO/T1CK/U1ARX/CN0/RC14 (io), 13 VDD (power), 14 IC2/INT2/RD9 (io), 15 EMUC2/IC1/INT1/RD8 (io), 16 SCK1/INT0/RF6 (io), 17 PGD/EMUD/U1TX/SDO1/SCL/RF3 (io), 18 PGC/EMUC/U1RX/SDI1/SDA/RF2 (io), 19 VSS (power), 20 VDD (power), 21 CN18/RF5 (io), 22 CN17/RF4 (io), 23 AN9/OC2/RB9 (io), 24 AN8/OC1/RB8 (io), 25 EMUD2/AN7/RB7 (io), 26 AN6/OCFA/RB6 (io), 27 AVSS (power), 28 AVDD (power)

## DSPIC30F2012-30I/ML
designator U?
High-Performance 16-bit Digital Signal Controller, 12 KB Flash, 1 KB SRAM, 28-Pin QFN, Industrial Temperature; Published: 29-Jan-2009; DatasheetVersion: revF, May-2008; PackageVersion: revBB, Aug-2009; PackageReference: QFN-ML28; Publisher: Altium Limited; PackageDescription: 28-Lead Plastic Quad Flat, No Lead Package (ML) - 6x6 mm Body [QFN] with 0.55 mm Contact Length; Supplier 1: Digi-Key; Supplier Part Number 1: DSPIC30F201230IML-ND; Supplier 2: Farnell; Supplier Part Number 2: 1815995; Code_JEDEC: MO-220; Code_IPC: QFN65P600X600-28V; ComponentLink1Description: Datasheet; ComponentLink1URL: http://ww1.microchip.com/downloads/en/DeviceDoc/70139F.pdf; ComponentLink2Description: Packaging Specification; ComponentLink2URL: http://www.microchip.com/stellent/groups/techpub_sg/documents/packagingspec/en012702.pdf; ComponentLink3Description: Microchip.com Home; ComponentLink3URL: http://www.microchip.com/
footprint QFN-ML28_N (QFN, 28-Leads, Body 6x6 mm, Pitch 0.65mm, IPC Medium Density)
footprint QFN-ML28_L (QFN, 28-Leads, Body 6x6 mm, Pitch 0.65mm, IPC High Density)
footprint QFN-ML28_M (QFN, 28-Leads, Body 6x6 mm, Pitch 0.65mm, IPC Low Density)
pins: 1 AN2/~{SS1}/LVDIN/CN4/RB2 (io), 2 AN3/CN5/RB3 (io), 3 AN4/CN6/RB4 (io), 4 AN5/CN7/RB5 (io), 5 VSS (power), 6 OSC1/CLKI (in), 7 OSC2/CLKO/RC15 (io), 8 EMUD1/SOSCI/T2CK/U1ATX/CN1/RC13 (io), 9 EMUC1/SOSCO/T1CK/U1ARX/CN0/RC14 (io), 10 VDD (power), 11 IC2/INT2/RD9 (io), 12 EMUC2/IC1/INT1/RD8 (io), 13 SCK1/INT0/RF6 (io), 14 PGD/EMUD/U1TX/SDO1/SCL/RF3 (io), 15 PGC/EMUC/U1RX/SDI1/SDA/RF2 (io), 16 VSS (power), 17 VDD (power), 18 CN18/RF5 (io), 19 CN17/RF4 (io), 20 AN9/OC2/RB9 (io), 21 AN8/OC1/RB8 (io), 22 EMUD2/AN7/RB7 (io), 23 AN6/OCFA/RB6 (io), 24 AVSS (power), 25 AVDD (power), 26 ~{MCLR} (in), 27 EMUD3/AN0/VREF+/CN2/RB0 (io), 28 EMUC3/AN1/VREF-/CN3/RB1 (io), 29 ThermalPad

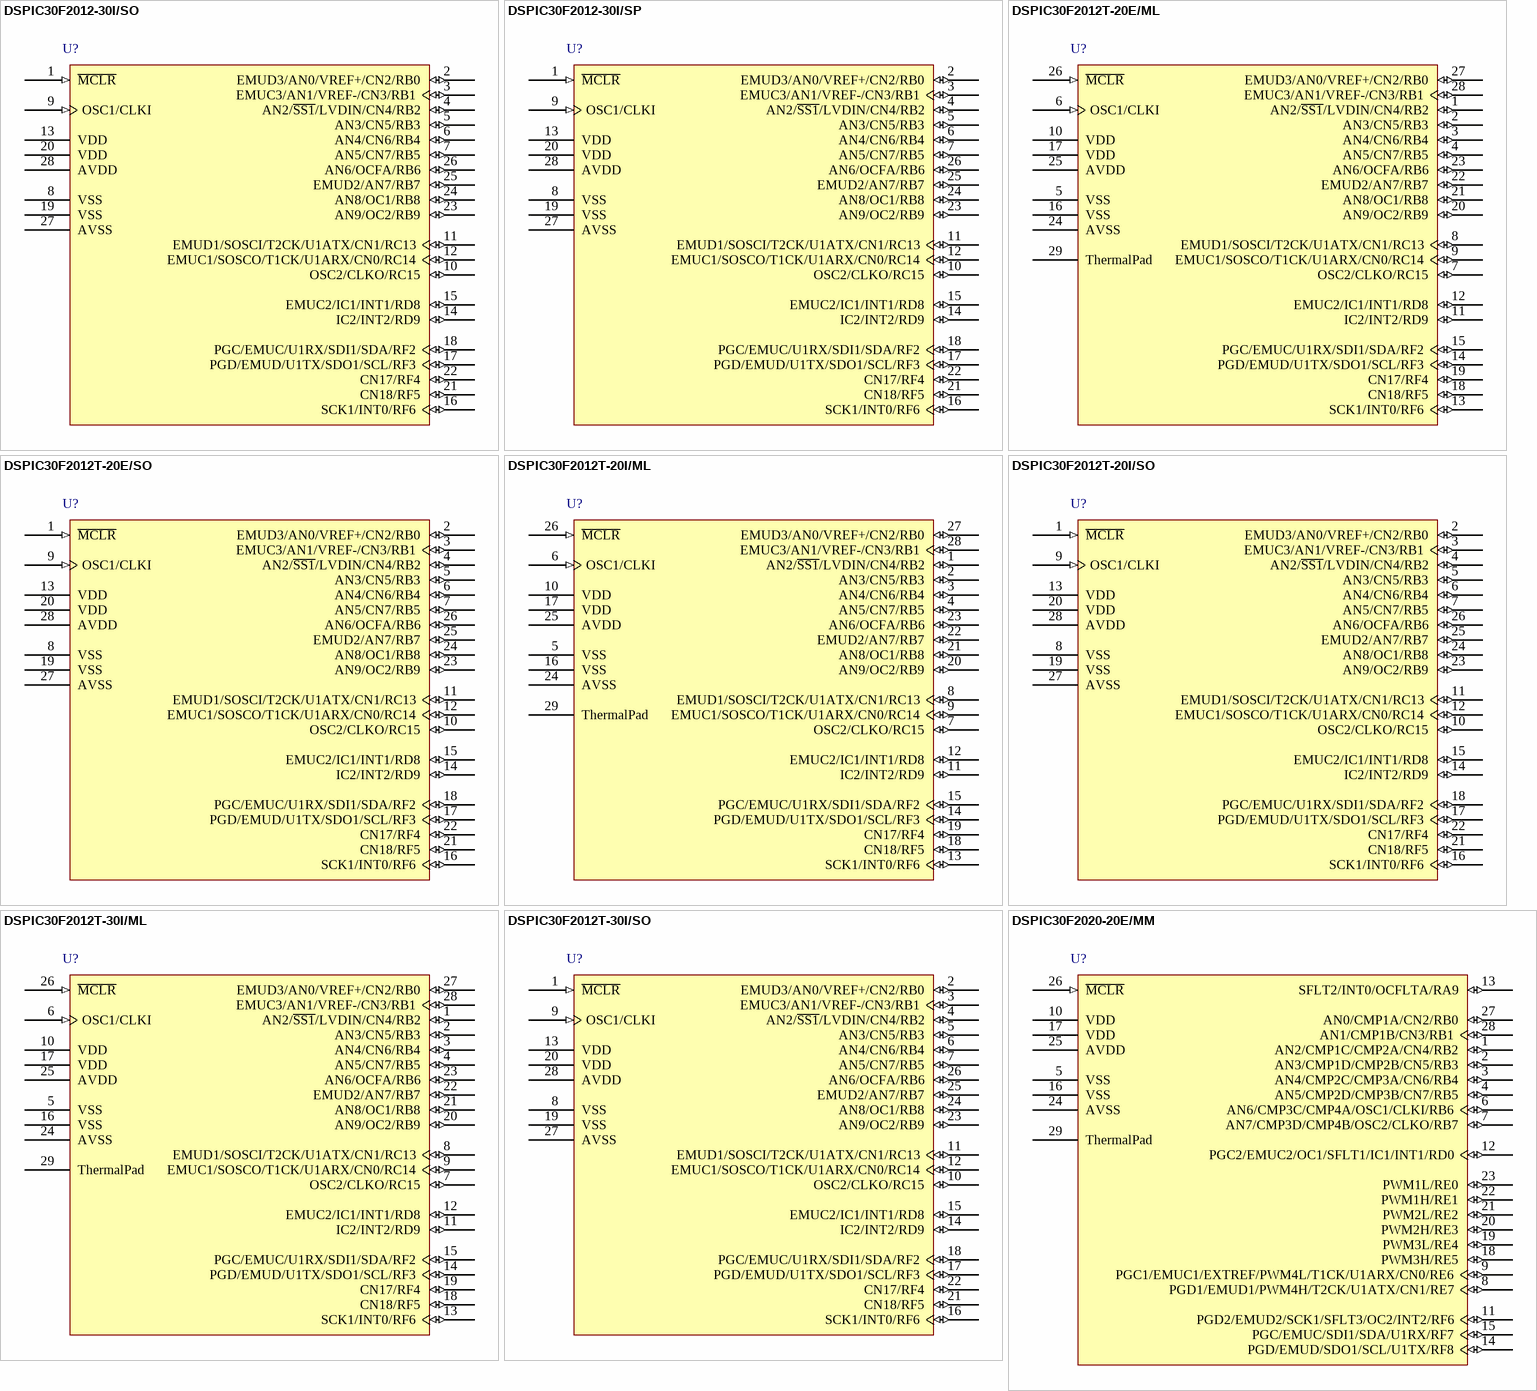
[diagram p5: symbols DSPIC30F2012-30I/SO to DSPIC30F2020-20E/MM]

## DSPIC30F2012-30I/SO
designator U?
High-Performance 16-bit Digital Signal Controller, 12 KB Flash, 1 KB SRAM, 28-Pin SOIC, Industrial Temperature; Published: 29-Jan-2009; DatasheetVersion: revF, May-2008; PackageVersion: revBB, Aug-2009; PackageReference: SOIC-SO28; Publisher: Altium Limited; PackageDescription: 28-Lead Plastic Small Outline (SO) - Wide 7.50mm Body [SOIC]; Supplier 1: Digi-Key; Supplier Part Number 1: DSPIC30F201230ISO-ND; Supplier 2: Farnell; Supplier Part Number 2: 1332024; Code_JEDEC: MS-013; ComponentLink1Description: Datasheet; ComponentLink1URL: http://ww1.microchip.com/downloads/en/DeviceDoc/70139F.pdf; ComponentLink2Description: Packaging Specification; ComponentLink2URL: http://www.microchip.com/stellent/groups/techpub_sg/documents/packagingspec/en012702.pdf; ComponentLink3Description: Microchip.com Home; ComponentLink3URL: http://www.microchip.com/
footprint SOIC-SO28_N (SOIC, 28-Leads, Body 17.9x7.5mm, Pitch 1.27mm, IPC Medium Density)
footprint SOIC-SO28_L (SOIC, 28-Leads, Body 17.9x7.5mm, Pitch 1.27mm, IPC High Density)
footprint SOIC-SO28_M (SOIC, 28-Leads, Body 17.9x7.5mm, Pitch 1.27mm, IPC Low Density)
pins: 1 ~{MCLR} (in), 2 EMUD3/AN0/VREF+/CN2/RB0 (io), 3 EMUC3/AN1/VREF-/CN3/RB1 (io), 4 AN2/~{SS1}/LVDIN/CN4/RB2 (io), 5 AN3/CN5/RB3 (io), 6 AN4/CN6/RB4 (io), 7 AN5/CN7/RB5 (io), 8 VSS (power), 9 OSC1/CLKI (in), 10 OSC2/CLKO/RC15 (io), 11 EMUD1/SOSCI/T2CK/U1ATX/CN1/RC13 (io), 12 EMUC1/SOSCO/T1CK/U1ARX/CN0/RC14 (io), 13 VDD (power), 14 IC2/INT2/RD9 (io), 15 EMUC2/IC1/INT1/RD8 (io), 16 SCK1/INT0/RF6 (io), 17 PGD/EMUD/U1TX/SDO1/SCL/RF3 (io), 18 PGC/EMUC/U1RX/SDI1/SDA/RF2 (io), 19 VSS (power), 20 VDD (power), 21 CN18/RF5 (io), 22 CN17/RF4 (io), 23 AN9/OC2/RB9 (io), 24 AN8/OC1/RB8 (io), 25 EMUD2/AN7/RB7 (io), 26 AN6/OCFA/RB6 (io), 27 AVSS (power), 28 AVDD (power)

## DSPIC30F2012-30I/SP
designator U?
High-Performance 16-bit Digital Signal Controller, 12 KB Flash, 1 KB SRAM, 28-Pin SPDIP, Industrial Temperature; Published: 29-Jan-2009; DatasheetVersion: revF, May-2008; PackageVersion: revBB, Aug-2009; PackageReference: SPDIP300-SP28; Publisher: Altium Limited; PackageDescription: 28-Lead Skinny Plastic Dual In-Line (SP) - 300 mil Body [SPDIP]; Supplier 1: Digi-Key; Supplier Part Number 1: DSPIC30F201230ISP-ND; Supplier 2: Farnell; Supplier Part Number 2: 1332025; ComponentLink1Description: Datasheet; ComponentLink1URL: http://ww1.microchip.com/downloads/en/DeviceDoc/70139F.pdf; ComponentLink2Description: Packaging Specification; ComponentLink2URL: http://www.microchip.com/stellent/groups/techpub_sg/documents/packagingspec/en012702.pdf; ComponentLink3Description: Microchip.com Home; ComponentLink3URL: http://www.microchip.com/
footprint SPDIP300-SP28 (DIP, 28-Leads, Row Spacing 7.62mm, Pitch 2.54mm, Body 34.9x6.8mm)
pins: 1 ~{MCLR} (in), 2 EMUD3/AN0/VREF+/CN2/RB0 (io), 3 EMUC3/AN1/VREF-/CN3/RB1 (io), 4 AN2/~{SS1}/LVDIN/CN4/RB2 (io), 5 AN3/CN5/RB3 (io), 6 AN4/CN6/RB4 (io), 7 AN5/CN7/RB5 (io), 8 VSS (power), 9 OSC1/CLKI (in), 10 OSC2/CLKO/RC15 (io), 11 EMUD1/SOSCI/T2CK/U1ATX/CN1/RC13 (io), 12 EMUC1/SOSCO/T1CK/U1ARX/CN0/RC14 (io), 13 VDD (power), 14 IC2/INT2/RD9 (io), 15 EMUC2/IC1/INT1/RD8 (io), 16 SCK1/INT0/RF6 (io), 17 PGD/EMUD/U1TX/SDO1/SCL/RF3 (io), 18 PGC/EMUC/U1RX/SDI1/SDA/RF2 (io), 19 VSS (power), 20 VDD (power), 21 CN18/RF5 (io), 22 CN17/RF4 (io), 23 AN9/OC2/RB9 (io), 24 AN8/OC1/RB8 (io), 25 EMUD2/AN7/RB7 (io), 26 AN6/OCFA/RB6 (io), 27 AVSS (power), 28 AVDD (power)

## DSPIC30F2012T-20E/ML
designator U?
High-Performance 16-bit Digital Signal Controller, 12 KB Flash, 1 KB SRAM, 28-Pin QFN, Extended High Temperature, Tape and Reel; Published: 29-Jan-2009; DatasheetVersion: revF, May-2008; PackageVersion: revBB, Aug-2009; PackageReference: QFN-ML28; Publisher: Altium Limited; PackageDescription: 28-Lead Plastic Quad Flat, No Lead Package (ML) - 6x6 mm Body [QFN] with 0.55 mm Contact Length; Supplier 1: Digi-Key; Supplier Part Number 1: DSPIC30F2012T-20E/ML-ND; Code_JEDEC: MO-220; Code_IPC: QFN65P600X600-28V; ComponentLink1Description: Datasheet; ComponentLink1URL: http://ww1.microchip.com/downloads/en/DeviceDoc/70139F.pdf; ComponentLink2Description: Packaging Specification; ComponentLink2URL: http://www.microchip.com/stellent/groups/techpub_sg/documents/packagingspec/en012702.pdf; ComponentLink3Description: Microchip.com Home; ComponentLink3URL: http://www.microchip.com/
footprint QFN-ML28_N (QFN, 28-Leads, Body 6x6 mm, Pitch 0.65mm, IPC Medium Density)
footprint QFN-ML28_L (QFN, 28-Leads, Body 6x6 mm, Pitch 0.65mm, IPC High Density)
footprint QFN-ML28_M (QFN, 28-Leads, Body 6x6 mm, Pitch 0.65mm, IPC Low Density)
pins: 1 AN2/~{SS1}/LVDIN/CN4/RB2 (io), 2 AN3/CN5/RB3 (io), 3 AN4/CN6/RB4 (io), 4 AN5/CN7/RB5 (io), 5 VSS (power), 6 OSC1/CLKI (in), 7 OSC2/CLKO/RC15 (io), 8 EMUD1/SOSCI/T2CK/U1ATX/CN1/RC13 (io), 9 EMUC1/SOSCO/T1CK/U1ARX/CN0/RC14 (io), 10 VDD (power), 11 IC2/INT2/RD9 (io), 12 EMUC2/IC1/INT1/RD8 (io), 13 SCK1/INT0/RF6 (io), 14 PGD/EMUD/U1TX/SDO1/SCL/RF3 (io), 15 PGC/EMUC/U1RX/SDI1/SDA/RF2 (io), 16 VSS (power), 17 VDD (power), 18 CN18/RF5 (io), 19 CN17/RF4 (io), 20 AN9/OC2/RB9 (io), 21 AN8/OC1/RB8 (io), 22 EMUD2/AN7/RB7 (io), 23 AN6/OCFA/RB6 (io), 24 AVSS (power), 25 AVDD (power), 26 ~{MCLR} (in), 27 EMUD3/AN0/VREF+/CN2/RB0 (io), 28 EMUC3/AN1/VREF-/CN3/RB1 (io), 29 ThermalPad

## DSPIC30F2012T-20E/SO
designator U?
High-Performance 16-bit Digital Signal Controller, 12 KB Flash, 1 KB SRAM, 28-Pin SOIC, Extended High Temperature, Tape and Reel; Published: 29-Jan-2009; DatasheetVersion: revF, May-2008; PackageVersion: revBB, Aug-2009; PackageReference: SOIC-SO28; Publisher: Altium Limited; PackageDescription: 28-Lead Plastic Small Outline (SO) - Wide 7.50mm Body [SOIC]; Supplier 1: Digi-Key; Supplier Part Number 1: DSPIC30F2012T-20E/SO-ND; Code_JEDEC: MS-013; ComponentLink1Description: Datasheet; ComponentLink1URL: http://ww1.microchip.com/downloads/en/DeviceDoc/70139F.pdf; ComponentLink2Description: Packaging Specification; ComponentLink2URL: http://www.microchip.com/stellent/groups/techpub_sg/documents/packagingspec/en012702.pdf; ComponentLink3Description: Microchip.com Home; ComponentLink3URL: http://www.microchip.com/
footprint SOIC-SO28_N (SOIC, 28-Leads, Body 17.9x7.5mm, Pitch 1.27mm, IPC Medium Density)
footprint SOIC-SO28_L (SOIC, 28-Leads, Body 17.9x7.5mm, Pitch 1.27mm, IPC High Density)
footprint SOIC-SO28_M (SOIC, 28-Leads, Body 17.9x7.5mm, Pitch 1.27mm, IPC Low Density)
pins: 1 ~{MCLR} (in), 2 EMUD3/AN0/VREF+/CN2/RB0 (io), 3 EMUC3/AN1/VREF-/CN3/RB1 (io), 4 AN2/~{SS1}/LVDIN/CN4/RB2 (io), 5 AN3/CN5/RB3 (io), 6 AN4/CN6/RB4 (io), 7 AN5/CN7/RB5 (io), 8 VSS (power), 9 OSC1/CLKI (in), 10 OSC2/CLKO/RC15 (io), 11 EMUD1/SOSCI/T2CK/U1ATX/CN1/RC13 (io), 12 EMUC1/SOSCO/T1CK/U1ARX/CN0/RC14 (io), 13 VDD (power), 14 IC2/INT2/RD9 (io), 15 EMUC2/IC1/INT1/RD8 (io), 16 SCK1/INT0/RF6 (io), 17 PGD/EMUD/U1TX/SDO1/SCL/RF3 (io), 18 PGC/EMUC/U1RX/SDI1/SDA/RF2 (io), 19 VSS (power), 20 VDD (power), 21 CN18/RF5 (io), 22 CN17/RF4 (io), 23 AN9/OC2/RB9 (io), 24 AN8/OC1/RB8 (io), 25 EMUD2/AN7/RB7 (io), 26 AN6/OCFA/RB6 (io), 27 AVSS (power), 28 AVDD (power)

## DSPIC30F2012T-20I/ML
designator U?
High-Performance 16-bit Digital Signal Controller, 12 KB Flash, 1 KB SRAM, 28-Pin QFN, Industrial Temperature, Tape and Reel; Published: 29-Jan-2009; DatasheetVersion: revF, May-2008; PackageVersion: revBB, Aug-2009; PackageReference: QFN-ML28; Publisher: Altium Limited; PackageDescription: 28-Lead Plastic Quad Flat, No Lead Package (ML) - 6x6 mm Body [QFN] with 0.55 mm Contact Length; Supplier 1: Digi-Key; Supplier Part Number 1: DSPIC30F2012T-20I/ML-ND; Code_JEDEC: MO-220; Code_IPC: QFN65P600X600-28V; ComponentLink1Description: Datasheet; ComponentLink1URL: http://ww1.microchip.com/downloads/en/DeviceDoc/70139F.pdf; ComponentLink2Description: Packaging Specification; ComponentLink2URL: http://www.microchip.com/stellent/groups/techpub_sg/documents/packagingspec/en012702.pdf; ComponentLink3Description: Microchip.com Home; ComponentLink3URL: http://www.microchip.com/
footprint QFN-ML28_N (QFN, 28-Leads, Body 6x6 mm, Pitch 0.65mm, IPC Medium Density)
footprint QFN-ML28_L (QFN, 28-Leads, Body 6x6 mm, Pitch 0.65mm, IPC High Density)
footprint QFN-ML28_M (QFN, 28-Leads, Body 6x6 mm, Pitch 0.65mm, IPC Low Density)
pins: 1 AN2/~{SS1}/LVDIN/CN4/RB2 (io), 2 AN3/CN5/RB3 (io), 3 AN4/CN6/RB4 (io), 4 AN5/CN7/RB5 (io), 5 VSS (power), 6 OSC1/CLKI (in), 7 OSC2/CLKO/RC15 (io), 8 EMUD1/SOSCI/T2CK/U1ATX/CN1/RC13 (io), 9 EMUC1/SOSCO/T1CK/U1ARX/CN0/RC14 (io), 10 VDD (power), 11 IC2/INT2/RD9 (io), 12 EMUC2/IC1/INT1/RD8 (io), 13 SCK1/INT0/RF6 (io), 14 PGD/EMUD/U1TX/SDO1/SCL/RF3 (io), 15 PGC/EMUC/U1RX/SDI1/SDA/RF2 (io), 16 VSS (power), 17 VDD (power), 18 CN18/RF5 (io), 19 CN17/RF4 (io), 20 AN9/OC2/RB9 (io), 21 AN8/OC1/RB8 (io), 22 EMUD2/AN7/RB7 (io), 23 AN6/OCFA/RB6 (io), 24 AVSS (power), 25 AVDD (power), 26 ~{MCLR} (in), 27 EMUD3/AN0/VREF+/CN2/RB0 (io), 28 EMUC3/AN1/VREF-/CN3/RB1 (io), 29 ThermalPad

## DSPIC30F2012T-20I/SO
designator U?
High-Performance 16-bit Digital Signal Controller, 12 KB Flash, 1 KB SRAM, 28-Pin SOIC, Industrial Temperature, Tape and Reel; Published: 29-Jan-2009; DatasheetVersion: revF, May-2008; PackageVersion: revBB, Aug-2009; PackageReference: SOIC-SO28; Publisher: Altium Limited; PackageDescription: 28-Lead Plastic Small Outline (SO) - Wide 7.50mm Body [SOIC]; Supplier 1: Digi-Key; Supplier Part Number 1: DSPIC30F2012T-20I/SO-ND; Code_JEDEC: MS-013; ComponentLink1Description: Datasheet; ComponentLink1URL: http://ww1.microchip.com/downloads/en/DeviceDoc/70139F.pdf; ComponentLink2Description: Packaging Specification; ComponentLink2URL: http://www.microchip.com/stellent/groups/techpub_sg/documents/packagingspec/en012702.pdf; ComponentLink3Description: Microchip.com Home; ComponentLink3URL: http://www.microchip.com/
footprint SOIC-SO28_N (SOIC, 28-Leads, Body 17.9x7.5mm, Pitch 1.27mm, IPC Medium Density)
footprint SOIC-SO28_L (SOIC, 28-Leads, Body 17.9x7.5mm, Pitch 1.27mm, IPC High Density)
footprint SOIC-SO28_M (SOIC, 28-Leads, Body 17.9x7.5mm, Pitch 1.27mm, IPC Low Density)
pins: 1 ~{MCLR} (in), 2 EMUD3/AN0/VREF+/CN2/RB0 (io), 3 EMUC3/AN1/VREF-/CN3/RB1 (io), 4 AN2/~{SS1}/LVDIN/CN4/RB2 (io), 5 AN3/CN5/RB3 (io), 6 AN4/CN6/RB4 (io), 7 AN5/CN7/RB5 (io), 8 VSS (power), 9 OSC1/CLKI (in), 10 OSC2/CLKO/RC15 (io), 11 EMUD1/SOSCI/T2CK/U1ATX/CN1/RC13 (io), 12 EMUC1/SOSCO/T1CK/U1ARX/CN0/RC14 (io), 13 VDD (power), 14 IC2/INT2/RD9 (io), 15 EMUC2/IC1/INT1/RD8 (io), 16 SCK1/INT0/RF6 (io), 17 PGD/EMUD/U1TX/SDO1/SCL/RF3 (io), 18 PGC/EMUC/U1RX/SDI1/SDA/RF2 (io), 19 VSS (power), 20 VDD (power), 21 CN18/RF5 (io), 22 CN17/RF4 (io), 23 AN9/OC2/RB9 (io), 24 AN8/OC1/RB8 (io), 25 EMUD2/AN7/RB7 (io), 26 AN6/OCFA/RB6 (io), 27 AVSS (power), 28 AVDD (power)

## DSPIC30F2012T-30I/ML
designator U?
High-Performance 16-bit Digital Signal Controller, 12 KB Flash, 1 KB SRAM, 28-Pin QFN, Industrial Temperature, Tape and Reel; Published: 29-Jan-2009; DatasheetVersion: revF, May-2008; PackageVersion: revBB, Aug-2009; PackageReference: QFN-ML28; Publisher: Altium Limited; PackageDescription: 28-Lead Plastic Quad Flat, No Lead Package (ML) - 6x6 mm Body [QFN] with 0.55 mm Contact Length; Supplier 1: Digi-Key; Supplier Part Number 1: DSPIC30F2012T-30I/ML-ND; Code_JEDEC: MO-220; Code_IPC: QFN65P600X600-28V; ComponentLink1Description: Datasheet; ComponentLink1URL: http://ww1.microchip.com/downloads/en/DeviceDoc/70139F.pdf; ComponentLink2Description: Packaging Specification; ComponentLink2URL: http://www.microchip.com/stellent/groups/techpub_sg/documents/packagingspec/en012702.pdf; ComponentLink3Description: Microchip.com Home; ComponentLink3URL: http://www.microchip.com/
footprint QFN-ML28_N (QFN, 28-Leads, Body 6x6 mm, Pitch 0.65mm, IPC Medium Density)
footprint QFN-ML28_L (QFN, 28-Leads, Body 6x6 mm, Pitch 0.65mm, IPC High Density)
footprint QFN-ML28_M (QFN, 28-Leads, Body 6x6 mm, Pitch 0.65mm, IPC Low Density)
pins: 1 AN2/~{SS1}/LVDIN/CN4/RB2 (io), 2 AN3/CN5/RB3 (io), 3 AN4/CN6/RB4 (io), 4 AN5/CN7/RB5 (io), 5 VSS (power), 6 OSC1/CLKI (in), 7 OSC2/CLKO/RC15 (io), 8 EMUD1/SOSCI/T2CK/U1ATX/CN1/RC13 (io), 9 EMUC1/SOSCO/T1CK/U1ARX/CN0/RC14 (io), 10 VDD (power), 11 IC2/INT2/RD9 (io), 12 EMUC2/IC1/INT1/RD8 (io), 13 SCK1/INT0/RF6 (io), 14 PGD/EMUD/U1TX/SDO1/SCL/RF3 (io), 15 PGC/EMUC/U1RX/SDI1/SDA/RF2 (io), 16 VSS (power), 17 VDD (power), 18 CN18/RF5 (io), 19 CN17/RF4 (io), 20 AN9/OC2/RB9 (io), 21 AN8/OC1/RB8 (io), 22 EMUD2/AN7/RB7 (io), 23 AN6/OCFA/RB6 (io), 24 AVSS (power), 25 AVDD (power), 26 ~{MCLR} (in), 27 EMUD3/AN0/VREF+/CN2/RB0 (io), 28 EMUC3/AN1/VREF-/CN3/RB1 (io), 29 ThermalPad

## DSPIC30F2012T-30I/SO
designator U?
High-Performance 16-bit Digital Signal Controller, 12 KB Flash, 1 KB SRAM, 28-Pin SOIC, Industrial Temperature, Tape and Reel; Published: 29-Jan-2009; DatasheetVersion: revF, May-2008; PackageVersion: revBB, Aug-2009; PackageReference: SOIC-SO28; Publisher: Altium Limited; PackageDescription: 28-Lead Plastic Small Outline (SO) - Wide 7.50mm Body [SOIC]; Supplier 1: Digi-Key; Supplier Part Number 1: DSPIC30F2012T-30I/SO-ND; Code_JEDEC: MS-013; ComponentLink1Description: Datasheet; ComponentLink1URL: http://ww1.microchip.com/downloads/en/DeviceDoc/70139F.pdf; ComponentLink2Description: Packaging Specification; ComponentLink2URL: http://www.microchip.com/stellent/groups/techpub_sg/documents/packagingspec/en012702.pdf; ComponentLink3Description: Microchip.com Home; ComponentLink3URL: http://www.microchip.com/
footprint SOIC-SO28_N (SOIC, 28-Leads, Body 17.9x7.5mm, Pitch 1.27mm, IPC Medium Density)
footprint SOIC-SO28_L (SOIC, 28-Leads, Body 17.9x7.5mm, Pitch 1.27mm, IPC High Density)
footprint SOIC-SO28_M (SOIC, 28-Leads, Body 17.9x7.5mm, Pitch 1.27mm, IPC Low Density)
pins: 1 ~{MCLR} (in), 2 EMUD3/AN0/VREF+/CN2/RB0 (io), 3 EMUC3/AN1/VREF-/CN3/RB1 (io), 4 AN2/~{SS1}/LVDIN/CN4/RB2 (io), 5 AN3/CN5/RB3 (io), 6 AN4/CN6/RB4 (io), 7 AN5/CN7/RB5 (io), 8 VSS (power), 9 OSC1/CLKI (in), 10 OSC2/CLKO/RC15 (io), 11 EMUD1/SOSCI/T2CK/U1ATX/CN1/RC13 (io), 12 EMUC1/SOSCO/T1CK/U1ARX/CN0/RC14 (io), 13 VDD (power), 14 IC2/INT2/RD9 (io), 15 EMUC2/IC1/INT1/RD8 (io), 16 SCK1/INT0/RF6 (io), 17 PGD/EMUD/U1TX/SDO1/SCL/RF3 (io), 18 PGC/EMUC/U1RX/SDI1/SDA/RF2 (io), 19 VSS (power), 20 VDD (power), 21 CN18/RF5 (io), 22 CN17/RF4 (io), 23 AN9/OC2/RB9 (io), 24 AN8/OC1/RB8 (io), 25 EMUD2/AN7/RB7 (io), 26 AN6/OCFA/RB6 (io), 27 AVSS (power), 28 AVDD (power)